# Altium footprint library Ampseal.PcbLib: 1 footprints
Each footprint in its own frame and in the unit in brackets; x right, y up, seen from the top. Pads: shape width x height; smd on the part's side, far side on the other; paste and mask are expansions set on the pad; w line width, h text height; cw(c..) or ccw(c..) is an arc to the next point about the centre after c.
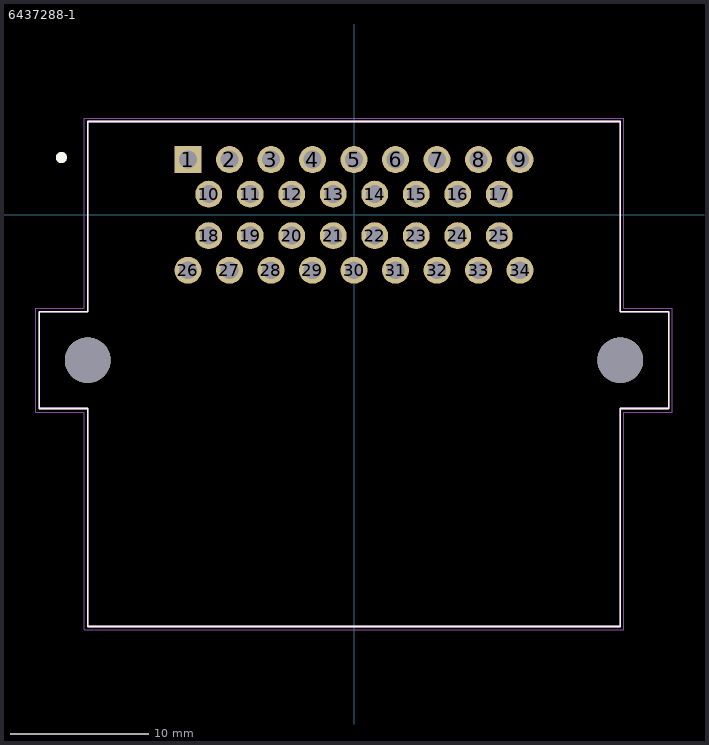
[diagram p0: the footprint, top view; thin cyan lines are the x and y axes]

## 6437288-1 [mm]
pads (36):
  rect 1.95x1.95 hole 1.3: 1(-12,4)
  round 1.95 hole 1.3: 2(-9,4) 3(-6,4) 4(-3,4) 5(0,4) 6(3,4) 7(6,4) 8(9,4) 9(12,4) 10(-10.5,1.5) 11(-7.5,1.5) 12(-4.5,1.5) 13(-1.5,1.5) 14(1.5,1.5) 15(4.5,1.5) 16(7.5,1.5) 17(10.5,1.5) 18(-10.5,-1.5) 19(-7.5,-1.5) 20(-4.5,-1.5) 21(-1.5,-1.5) 22(1.5,-1.5) 23(4.5,-1.5) 24(7.5,-1.5) 25(10.5,-1.5) 26(-12,-4) 27(-9,-4) 28(-6,-4) 29(-3,-4) 30(0,-4) 31(3,-4) 32(6,-4) 33(9,-4) 34(12,-4)
  round 3.3 hole 3.3 unplated: ""(-19.25,-10.5) ""(19.25,-10.5)
Top Overlay:
  circle w0.4: c-21.154,4.148 r0.2
  lines w0.127: -19.253,6.748 -19.253,-7 -22.75,-7 -22.75,-14 -19.25,-14 -19.25,-29.75 19.25,-29.75 19.25,-14 22.75,-14 22.75,-7 19.25,-7 19.25,6.75 -19.25,6.75
Mechanical 13:
  circle w0.4: c-21.154,4.148 r0.2
  lines w0.127: -22.75,-14 -19.25,-14 -19.25,-29.75 19.25,-29.75 19.25,-14 22.75,-14 22.75,-7 19.25,-7 19.25,6.75 -19.25,6.75 -19.25,-7 -22.75,-7 -22.75,-14
Mechanical 15:
  lines w0.05: -23,-14.25 -19.5,-14.25 -19.5,-30 19.5,-30 19.5,-14.25 23,-14.25 23,-6.75 19.5,-6.75 19.5,7 -19.5,7 -19.5,-6.75 -23,-6.75 -23,-14.25